# EAGLE library part ARDUINO_NANO (library DSDEagleLibrary)
Arduino Nano, Through Hole
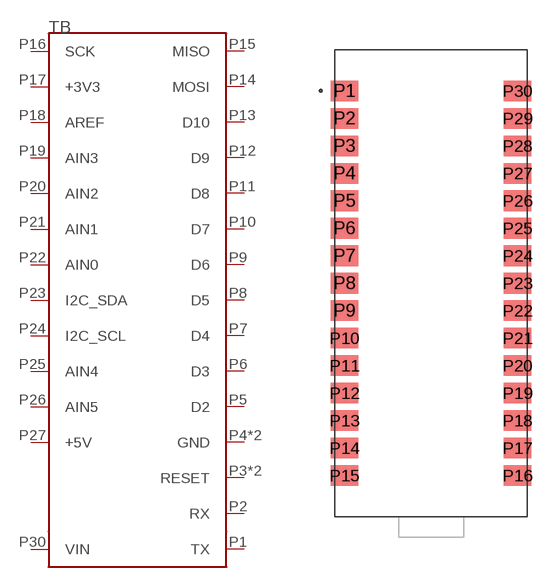
[diagram p65: symbol with the pads of SHIELD_ARDUINO_NANO; footprint SHIELD_ARDUINO_NANO]

Designator prefix TB

## ARDUINO_NANO (AVAILABILITY: Unavailable; DESCRIPTION: ATmega4809 Arduino Nano Every with Headers AVR® AVR MCU 8-Bit Embedded Evaluation Board; MF: Arduino; MP: ARDUINO NANO; PACKAGE: None; PRICE: None)  [SHIELD_ARDUINO_NANO]
P1  TX
P2  RX
P3  RESET
P4  GND
P5  D2
P6  D3
P7  D4
P8  D5
P9  D6
P10  D7
P11  D8
P12  D9
P13  D10
P14  MOSI
P15  MISO
P16  SCK
P17  +3V3
P18  AREF
P19  AIN3
P20  AIN2
P21  AIN1
P22  AIN0
P23  I2C_SDA
P24  I2C_SCL
P25  AIN4
P26  AIN5
P27  +5V
P28  RESET
P29  GND
P30  VIN

## Footprint SHIELD_ARDUINO_NANO (pad centres in mm)
smd 2.54 x 1.905: P1 -8.001,17.78; P2 -8.001,15.24; P3 -8.001,12.7; P4 -8.001,10.16; P5 -8.001,7.62; P6 -8.001,5.08; P7 -8.001,2.54; P8 -8.001,0; P9 -8.001,-2.54; P10 -8.001,-5.08; P11 -8.001,-7.62; P12 -8.001,-10.16; P13 -8.001,-12.7; P14 -8.001,-15.24; P15 -8.001,-17.78; P16 8.001,-17.78; P17 8.001,-15.24; P18 8.001,-12.7; P19 8.001,-10.16; P20 8.001,-7.62; P21 8.001,-5.08; P22 8.001,-2.54; P23 8.001,0; P24 8.001,2.54; P25 8.001,5.08; P26 8.001,7.62; P27 8.001,10.16; P28 8.001,12.7; P29 8.001,15.24; P30 8.001,17.78